# Altium schematic symbol library Comprehensives.SchLib: 2 symbols
Pins are listed as number, name and electrical type; pins without a type are passive.

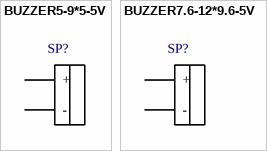
[diagram p0: symbols BUZZER5-9*5-5V to BUZZER7.6-12*9.6-5V]

## BUZZER5-9*5-5V
designator SP?, comment 5V  (value not drawn)
Value: 5V
footprint BUZZER5-9*5
pins: 1 +, 2 -

## BUZZER7.6-12*9.6-5V
designator SP?, comment 5V  (value not drawn)
Value: 5V
footprint BUZZER7.6-12*9.5
pins: 1 +, 2 -